# Altium schematic symbol library DC DC MURATA.SchLib: 1 symbol
Pins are listed as number, name and electrical type; pins without a type are passive.

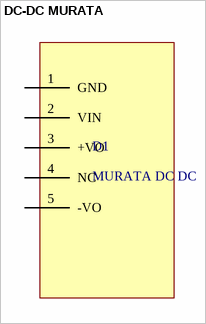
[diagram p0: symbol DC-DC MURATA]

## DC-DC MURATA
designator D1, comment MURATA DC DC
pins: 1 GND, 2 VIN, 3 +VO, 4 NC, 5 -VO